# Altium schematic symbol library MOTHERBOARD.SchLib: 670 symbols (part 2 of 2)
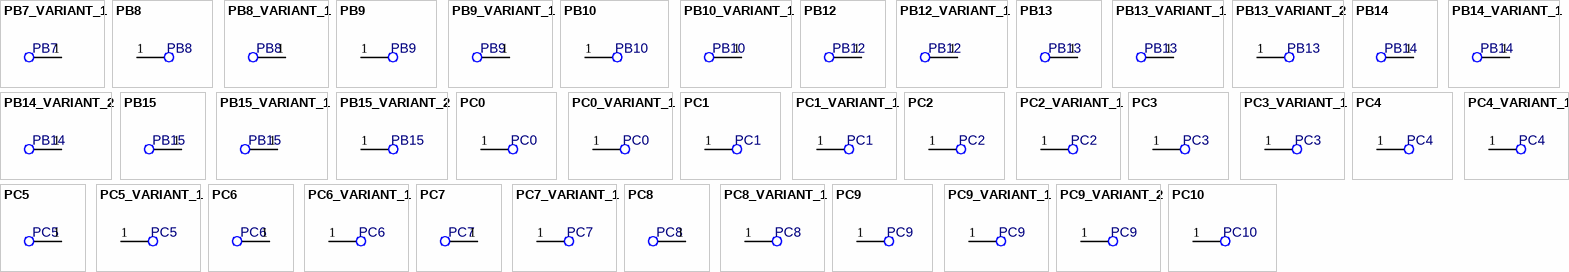
[diagram p17: symbols PB7_VARIANT_1 to PC10]

## PC3
designator U?
Value: *
pins: 1

## PC3_VARIANT_1
designator U?, comment PC3
PC3_VARIANT_1; Value: *
pins: 1

## PC4
designator U?
Value: *
pins: 1

## PC4_VARIANT_1
designator U?, comment PC4
PC4_VARIANT_1; Value: *
pins: 1

## PC5
designator U?
Value: *
pins: 1

## PC5_VARIANT_1
designator U?, comment PC5
PC5_VARIANT_1; Value: *
pins: 1

## PC6
designator U?
Value: *
pins: 1

## PC6_VARIANT_1
designator U?, comment PC6
PC6_VARIANT_1; Value: *
pins: 1

## PC7
designator U?
Value: *
pins: 1

## PC7_VARIANT_1
designator U?, comment PC7
PC7_VARIANT_1; Value: *
pins: 1

## PC8
designator U?
Value: *
pins: 1

## PC8_VARIANT_1
designator U?, comment PC8
PC8_VARIANT_1; Value: *
pins: 1

## PC9
designator U?
Value: *
pins: 1

## PC9_VARIANT_1
designator U?, comment PC9
PC9_VARIANT_1; Value: *
pins: 1

## PC9_VARIANT_2
designator U?, comment PC9
PC9_VARIANT_2; Value: *
pins: 1

## PC10
designator U?
Value: *
pins: 1

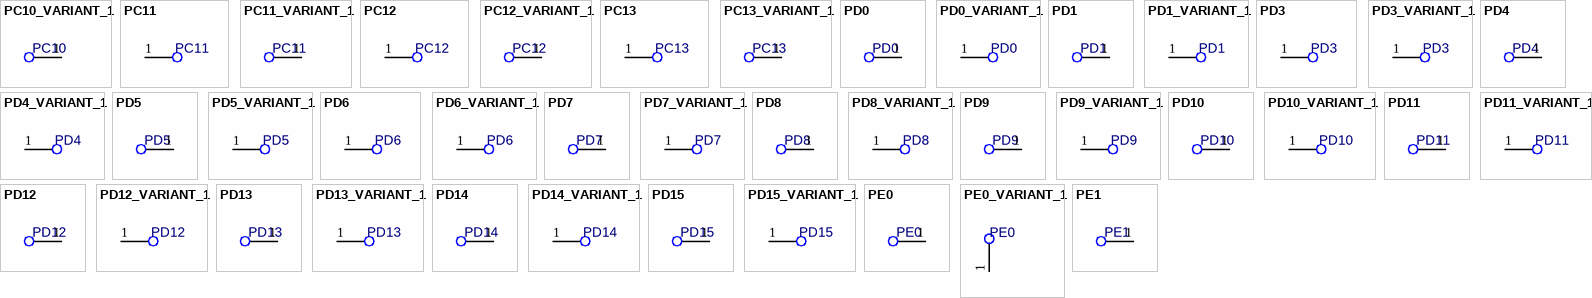
[diagram p13: symbols PC10_VARIANT_1 to PE1]

## PC10_VARIANT_1
designator U?, comment PC10
PC10_VARIANT_1; Value: *
pins: 1

## PC11
designator U?
Value: *
pins: 1

## PC11_VARIANT_1
designator U?, comment PC11
PC11_VARIANT_1; Value: *
pins: 1

## PC12
designator U?
Value: *
pins: 1

## PC12_VARIANT_1
designator U?, comment PC12
PC12_VARIANT_1; Value: *
pins: 1

## PC13
designator U?
Value: *
pins: 1

## PC13_VARIANT_1
designator U?, comment PC13
PC13_VARIANT_1; Value: *
pins: 1

## PD0
designator U?
Value: *
pins: 1

## PD0_VARIANT_1
designator U?, comment PD0
PD0_VARIANT_1; Value: *
pins: 1

## PD1
designator U?
Value: *
pins: 1

## PD1_VARIANT_1
designator U?, comment PD1
PD1_VARIANT_1; Value: *
pins: 1

## PD3
designator U?
Value: *
pins: 1

## PD3_VARIANT_1
designator U?, comment PD3
PD3_VARIANT_1; Value: *
pins: 1

## PD4
designator U?
Value: *
pins: 1

## PD4_VARIANT_1
designator U?, comment PD4
PD4_VARIANT_1; Value: *
pins: 1

## PD5
designator U?
Value: *
pins: 1

## PD5_VARIANT_1
designator U?, comment PD5
PD5_VARIANT_1; Value: *
pins: 1

## PD6
designator U?
Value: *
pins: 1

## PD6_VARIANT_1
designator U?, comment PD6
PD6_VARIANT_1; Value: *
pins: 1

## PD7
designator U?
Value: *
pins: 1

## PD7_VARIANT_1
designator U?, comment PD7
PD7_VARIANT_1; Value: *
pins: 1

## PD8
designator U?
Value: *
pins: 1

## PD8_VARIANT_1
designator U?, comment PD8
PD8_VARIANT_1; Value: *
pins: 1

## PD9
designator U?
Value: *
pins: 1

## PD9_VARIANT_1
designator U?, comment PD9
PD9_VARIANT_1; Value: *
pins: 1

## PD10
designator U?
Value: *
pins: 1

## PD10_VARIANT_1
designator U?, comment PD10
PD10_VARIANT_1; Value: *
pins: 1

## PD11
designator U?
Value: *
pins: 1

## PD11_VARIANT_1
designator U?, comment PD11
PD11_VARIANT_1; Value: *
pins: 1

## PD12
designator U?
Value: *
pins: 1

## PD12_VARIANT_1
designator U?, comment PD12
PD12_VARIANT_1; Value: *
pins: 1

## PD13
designator U?
Value: *
pins: 1

## PD13_VARIANT_1
designator U?, comment PD13
PD13_VARIANT_1; Value: *
pins: 1

## PD14
designator U?
Value: *
pins: 1

## PD14_VARIANT_1
designator U?, comment PD14
PD14_VARIANT_1; Value: *
pins: 1

## PD15
designator U?
Value: *
pins: 1

## PD15_VARIANT_1
designator U?, comment PD15
PD15_VARIANT_1; Value: *
pins: 1

## PE0
designator U?
Value: *
pins: 1

## PE0_VARIANT_1
designator U?, comment PE0
PE0_VARIANT_1; Value: *
pins: 1

## PE1
designator U?
Value: *
pins: 1

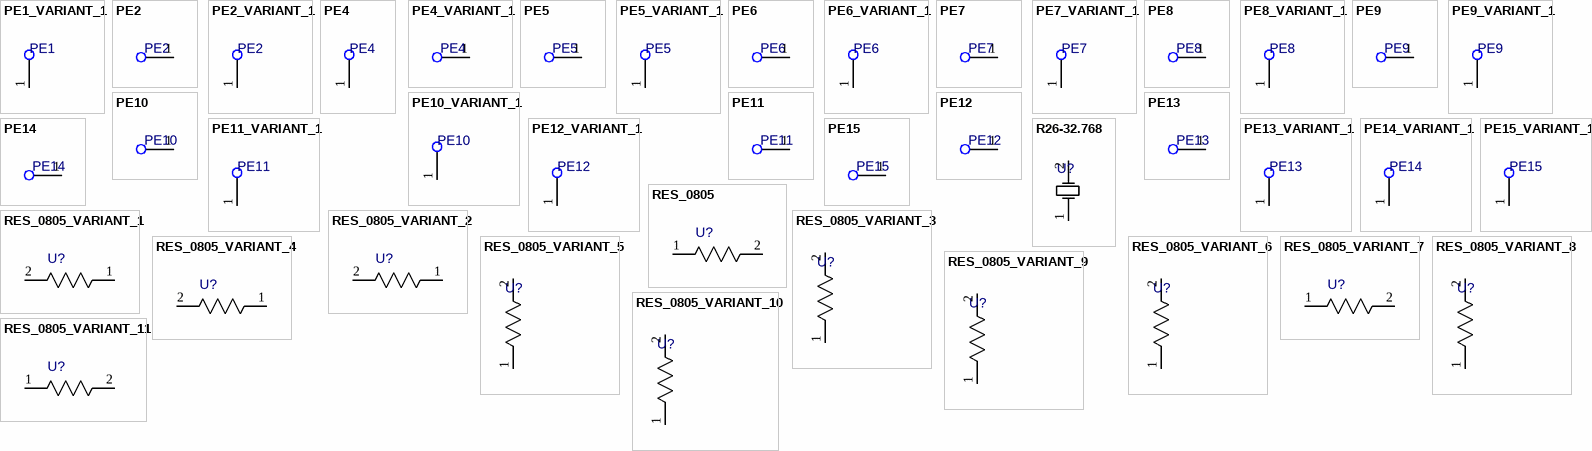
[diagram p14: symbols PE1_VARIANT_1 to RES_0805_VARIANT_11]

## PE1_VARIANT_1
designator U?, comment PE1
PE1_VARIANT_1; Value: *
pins: 1

## PE2
designator U?
Value: *
pins: 1

## PE2_VARIANT_1
designator U?, comment PE2
PE2_VARIANT_1; Value: *
pins: 1

## PE4
designator U?
Value: *
pins: 1

## PE4_VARIANT_1
designator U?, comment PE4
PE4_VARIANT_1; Value: *
pins: 1

## PE5
designator U?
Value: *
pins: 1

## PE5_VARIANT_1
designator U?, comment PE5
PE5_VARIANT_1; Value: *
pins: 1

## PE6
designator U?
Value: *
pins: 1

## PE6_VARIANT_1
designator U?, comment PE6
PE6_VARIANT_1; Value: *
pins: 1

## PE7
designator U?
Value: *
pins: 1

## PE7_VARIANT_1
designator U?, comment PE7
PE7_VARIANT_1; Value: *
pins: 1

## PE8
designator U?
Value: *
pins: 1

## PE8_VARIANT_1
designator U?, comment PE8
PE8_VARIANT_1; Value: *
pins: 1

## PE9
designator U?
Value: *
pins: 1

## PE9_VARIANT_1
designator U?, comment PE9
PE9_VARIANT_1; Value: *
pins: 1

## PE10
designator U?
Value: *
pins: 1

## PE10_VARIANT_1
designator U?, comment PE10
PE10_VARIANT_1; Value: *
pins: 1

## PE11
designator U?
Value: *
pins: 1

## PE11_VARIANT_1
designator U?, comment PE11
PE11_VARIANT_1; Value: *
pins: 1

## PE12
designator U?
Value: *
pins: 1

## PE12_VARIANT_1
designator U?, comment PE12
PE12_VARIANT_1; Value: *
pins: 1

## PE13
designator U?
Value: *
pins: 1

## PE13_VARIANT_1
designator U?, comment PE13
PE13_VARIANT_1; Value: *
pins: 1

## PE14
designator U?
Value: *
pins: 1

## PE14_VARIANT_1
designator U?, comment PE14
PE14_VARIANT_1; Value: *
pins: 1

## PE15
designator U?
Value: *
pins: 1

## PE15_VARIANT_1
designator U?, comment PE15
PE15_VARIANT_1; Value: *
pins: 1

## R26-32.768
designator U?  (value not drawn)
Value: *
footprint BCY-2/D2.1
pins: 1 OSC1, 2 OSC2

## RES_0805
designator U?  (value not drawn)
Value: *
footprint RES_0805
pins: 1, 2

## RES_0805_VARIANT_1
designator U?, comment RES_0805  (value not drawn)
RES_0805_VARIANT_1; Value: *
footprint RES_0805
pins: 1, 2

## RES_0805_VARIANT_2
designator U?, comment RES_0805  (value not drawn)
RES_0805_VARIANT_2; Value: *
footprint RES_0805
pins: 1, 2

## RES_0805_VARIANT_3
designator U?, comment RES_0805  (value not drawn)
RES_0805_VARIANT_3; Value: *
footprint RES_0805
pins: 1, 2

## RES_0805_VARIANT_4
designator U?, comment RES_0805  (value not drawn)
RES_0805_VARIANT_4; Value: *
footprint RES_0805
pins: 1, 2

## RES_0805_VARIANT_5
designator U?, comment RES_0805  (value not drawn)
RES_0805_VARIANT_5; Value: *
footprint RES_0805
pins: 1, 2

## RES_0805_VARIANT_6
designator U?, comment RES_0805  (value not drawn)
RES_0805_VARIANT_6; Value: *
footprint RES_0805
pins: 1, 2

## RES_0805_VARIANT_7
designator U?, comment RES_0805  (value not drawn)
RES_0805_VARIANT_7; Value: *
footprint RES_0805
pins: 1, 2

## RES_0805_VARIANT_8
designator U?, comment RES_0805  (value not drawn)
RES_0805_VARIANT_8; Value: *
footprint RES_0805
pins: 1, 2

## RES_0805_VARIANT_9
designator U?, comment RES_0805  (value not drawn)
RES_0805_VARIANT_9; Value: *
footprint RES_0805
pins: 1, 2

## RES_0805_VARIANT_10
designator U?, comment RES_0805  (value not drawn)
RES_0805_VARIANT_10; Value: *
footprint RES_0805
pins: 1, 2

## RES_0805_VARIANT_11
designator U?, comment RES_0805  (value not drawn)
RES_0805_VARIANT_11; Value: *
footprint RES_0805
pins: 1, 2

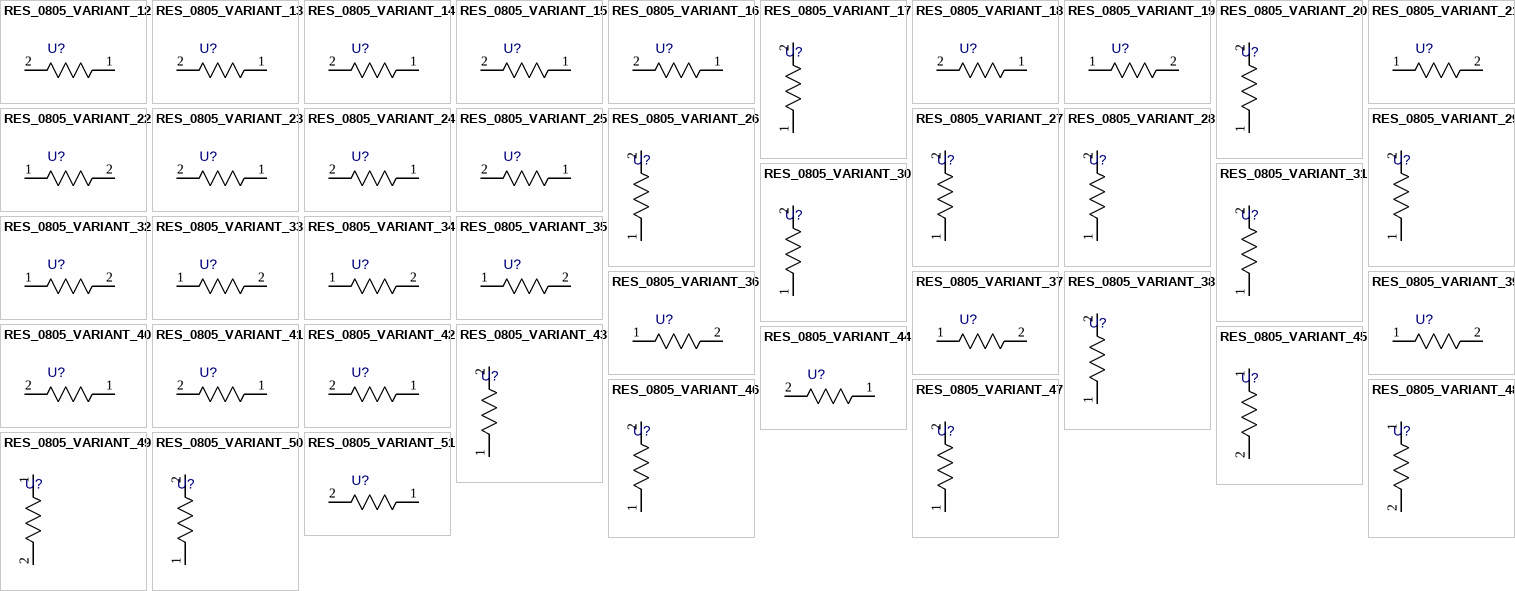
[diagram p15: symbols RES_0805_VARIANT_12 to RES_0805_VARIANT_51]

## RES_0805_VARIANT_12
designator U?, comment RES_0805  (value not drawn)
RES_0805_VARIANT_12; Value: *
footprint RES_0805
pins: 1, 2

## RES_0805_VARIANT_13
designator U?, comment RES_0805  (value not drawn)
RES_0805_VARIANT_13; Value: *
footprint RES_0805
pins: 1, 2

## RES_0805_VARIANT_14
designator U?, comment RES_0805  (value not drawn)
RES_0805_VARIANT_14; Value: *
footprint RES_0805
pins: 1, 2

## RES_0805_VARIANT_15
designator U?, comment RES_0805  (value not drawn)
RES_0805_VARIANT_15; Value: *
footprint RES_0805
pins: 1, 2

## RES_0805_VARIANT_16
designator U?, comment RES_0805  (value not drawn)
RES_0805_VARIANT_16; Value: *
footprint RES_0805
pins: 1, 2

## RES_0805_VARIANT_17
designator U?, comment RES_0805  (value not drawn)
RES_0805_VARIANT_17; Value: *
footprint RES_0805
pins: 1, 2

## RES_0805_VARIANT_18
designator U?, comment RES_0805  (value not drawn)
RES_0805_VARIANT_18; Value: *
footprint RES_0805
pins: 1, 2

## RES_0805_VARIANT_19
designator U?, comment RES_0805  (value not drawn)
RES_0805_VARIANT_19; Value: *
footprint RES_0805
pins: 1, 2

## RES_0805_VARIANT_20
designator U?, comment RES_0805  (value not drawn)
RES_0805_VARIANT_20; Value: *
footprint RES_0805
pins: 1, 2

## RES_0805_VARIANT_21
designator U?, comment RES_0805  (value not drawn)
RES_0805_VARIANT_21; Value: *
footprint RES_0805
pins: 1, 2

## RES_0805_VARIANT_22
designator U?, comment RES_0805  (value not drawn)
RES_0805_VARIANT_22; Value: *
footprint RES_0805
pins: 1, 2

## RES_0805_VARIANT_23
designator U?, comment RES_0805  (value not drawn)
RES_0805_VARIANT_23; Value: *
footprint RES_0805
pins: 1, 2

## RES_0805_VARIANT_24
designator U?, comment RES_0805  (value not drawn)
RES_0805_VARIANT_24; Value: *
footprint RES_0805
pins: 1, 2

## RES_0805_VARIANT_25
designator U?, comment RES_0805  (value not drawn)
RES_0805_VARIANT_25; Value: *
footprint RES_0805
pins: 1, 2

## RES_0805_VARIANT_26
designator U?, comment RES_0805  (value not drawn)
RES_0805_VARIANT_26; Value: *
footprint RES_0805
pins: 1, 2

## RES_0805_VARIANT_27
designator U?, comment RES_0805  (value not drawn)
RES_0805_VARIANT_27; Value: *
footprint RES_0805
pins: 1, 2

## RES_0805_VARIANT_28
designator U?, comment RES_0805  (value not drawn)
RES_0805_VARIANT_28; Value: *
footprint RES_0805
pins: 1, 2

## RES_0805_VARIANT_29
designator U?, comment RES_0805  (value not drawn)
RES_0805_VARIANT_29; Value: *
footprint RES_0805
pins: 1, 2

## RES_0805_VARIANT_30
designator U?, comment RES_0805  (value not drawn)
RES_0805_VARIANT_30; Value: *
footprint RES_0805
pins: 1, 2

## RES_0805_VARIANT_31
designator U?, comment RES_0805  (value not drawn)
RES_0805_VARIANT_31; Value: *
footprint RES_0805
pins: 1, 2

## RES_0805_VARIANT_32
designator U?, comment RES_0805  (value not drawn)
RES_0805_VARIANT_32; Value: *
footprint RES_0805
pins: 1, 2

## RES_0805_VARIANT_33
designator U?, comment RES_0805  (value not drawn)
RES_0805_VARIANT_33; Value: *
footprint RES_0805
pins: 1, 2

## RES_0805_VARIANT_34
designator U?, comment RES_0805  (value not drawn)
RES_0805_VARIANT_34; Value: *
footprint RES_0805
pins: 1, 2

## RES_0805_VARIANT_35
designator U?, comment RES_0805  (value not drawn)
RES_0805_VARIANT_35; Value: *
footprint RES_0805
pins: 1, 2

## RES_0805_VARIANT_36
designator U?, comment RES_0805  (value not drawn)
RES_0805_VARIANT_36; Value: *
footprint RES_0805
pins: 1, 2

## RES_0805_VARIANT_37
designator U?, comment RES_0805  (value not drawn)
RES_0805_VARIANT_37; Value: *
footprint RES_0805
pins: 1, 2

## RES_0805_VARIANT_38
designator U?, comment RES_0805  (value not drawn)
RES_0805_VARIANT_38; Value: *
footprint RES_0805
pins: 1, 2

## RES_0805_VARIANT_39
designator U?, comment RES_0805  (value not drawn)
RES_0805_VARIANT_39; Value: *
footprint RES_0805
pins: 1, 2

## RES_0805_VARIANT_40
designator U?, comment RES_0805  (value not drawn)
RES_0805_VARIANT_40; Value: *
footprint RES_0805
pins: 1, 2

## RES_0805_VARIANT_41
designator U?, comment RES_0805  (value not drawn)
RES_0805_VARIANT_41; Value: *
footprint RES_0805
pins: 1, 2

## RES_0805_VARIANT_42
designator U?, comment RES_0805  (value not drawn)
RES_0805_VARIANT_42; Value: *
footprint RES_0805
pins: 1, 2

## RES_0805_VARIANT_43
designator U?, comment RES_0805  (value not drawn)
RES_0805_VARIANT_43; Value: *
footprint RES_0805
pins: 1, 2

## RES_0805_VARIANT_44
designator U?, comment RES_0805  (value not drawn)
RES_0805_VARIANT_44; Value: *
footprint RES_0805
pins: 1, 2

## RES_0805_VARIANT_45
designator U?, comment RES_0805  (value not drawn)
RES_0805_VARIANT_45; Value: *
footprint RES_0805
pins: 1, 2

## RES_0805_VARIANT_46
designator U?, comment RES_0805  (value not drawn)
RES_0805_VARIANT_46; Value: *
footprint RES_0805
pins: 1, 2

## RES_0805_VARIANT_47
designator U?, comment RES_0805  (value not drawn)
RES_0805_VARIANT_47; Value: *
footprint RES_0805
pins: 1, 2

## RES_0805_VARIANT_48
designator U?, comment RES_0805  (value not drawn)
RES_0805_VARIANT_48; Value: *
footprint RES_0805
pins: 1, 2

## RES_0805_VARIANT_49
designator U?, comment RES_0805  (value not drawn)
RES_0805_VARIANT_49; Value: *
footprint RES_0805
pins: 1, 2

## RES_0805_VARIANT_50
designator U?, comment RES_0805  (value not drawn)
RES_0805_VARIANT_50; Value: *
footprint RES_0805
pins: 1, 2

## RES_0805_VARIANT_51
designator U?, comment RES_0805  (value not drawn)
RES_0805_VARIANT_51; Value: *
footprint RES_0805
pins: 1, 2

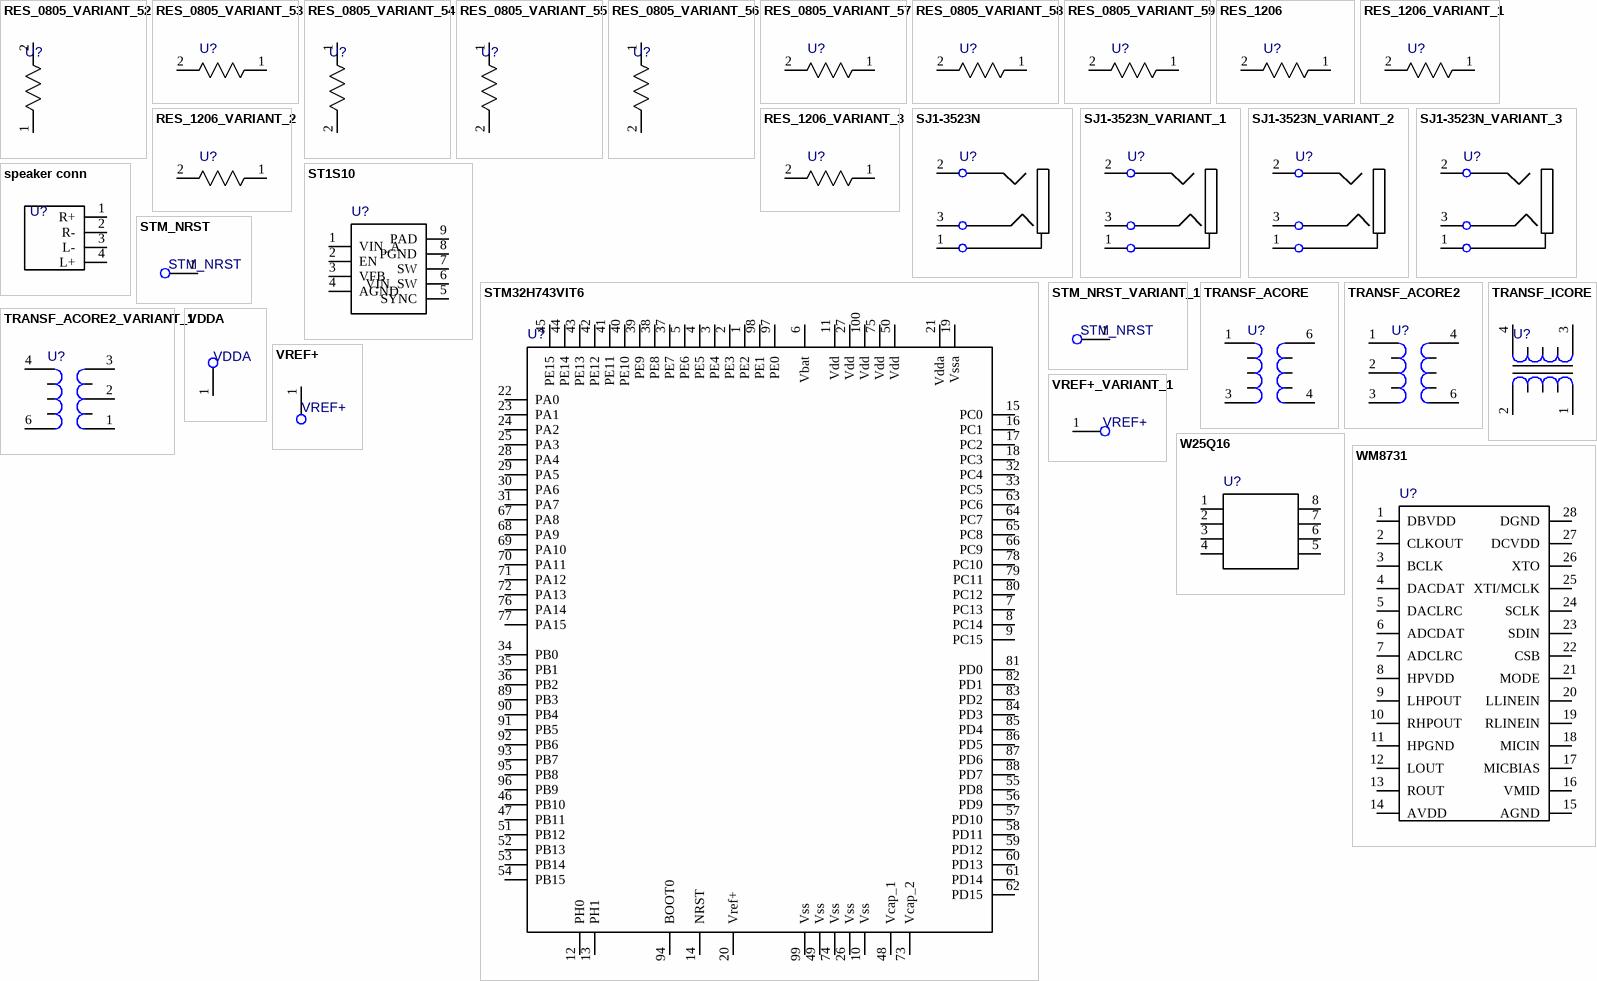
[diagram p16: symbols RES_0805_VARIANT_52 to WM8731]

## RES_0805_VARIANT_52
designator U?, comment RES_0805  (value not drawn)
RES_0805_VARIANT_52; Value: *
footprint RES_0805
pins: 1, 2

## RES_0805_VARIANT_53
designator U?, comment RES_0805  (value not drawn)
RES_0805_VARIANT_53; Value: *
footprint RES_0805
pins: 1, 2

## RES_0805_VARIANT_54
designator U?, comment RES_0805  (value not drawn)
RES_0805_VARIANT_54; Value: *
footprint RES_0805
pins: 1, 2

## RES_0805_VARIANT_55
designator U?, comment RES_0805  (value not drawn)
RES_0805_VARIANT_55; Value: *
footprint RES_0805
pins: 1, 2

## RES_0805_VARIANT_56
designator U?, comment RES_0805  (value not drawn)
RES_0805_VARIANT_56; Value: *
footprint RES_0805
pins: 1, 2

## RES_0805_VARIANT_57
designator U?, comment RES_0805  (value not drawn)
RES_0805_VARIANT_57; Value: *
footprint RES_0805
pins: 1, 2

## RES_0805_VARIANT_58
designator U?, comment RES_0805  (value not drawn)
RES_0805_VARIANT_58; Value: *
footprint RES_0805
pins: 1, 2

## RES_0805_VARIANT_59
designator U?, comment RES_0805  (value not drawn)
RES_0805_VARIANT_59; Value: *
footprint RES_0805
pins: 1, 2

## RES_1206
designator U?  (value not drawn)
Value: *
footprint RES_1206
pins: 1, 2

## RES_1206_VARIANT_1
designator U?, comment RES_1206  (value not drawn)
RES_1206_VARIANT_1; Value: *
footprint RES_1206
pins: 1, 2

## RES_1206_VARIANT_2
designator U?, comment RES_1206  (value not drawn)
RES_1206_VARIANT_2; Value: *
footprint RES_1206
pins: 1, 2

## RES_1206_VARIANT_3
designator U?, comment RES_1206  (value not drawn)
RES_1206_VARIANT_3; Value: *
footprint RES_1206
pins: 1, 2

## SJ1-3523N
designator U?  (value not drawn)
Value: *
footprint SJ1-3525NG
pins: 1 sleeve, 2 tip, 3 ring

## SJ1-3523N_VARIANT_1
designator U?, comment SJ1-3523N  (value not drawn)
SJ1-3523N_VARIANT_1; Value: *
footprint SJ1-3523N
pins: 1 sleeve, 2 tip, 3 ring

## SJ1-3523N_VARIANT_2
designator U?, comment SJ1-3523N  (value not drawn)
SJ1-3523N_VARIANT_2; Value: *
footprint SJ1-3523N
pins: 1 sleeve, 2 tip, 3 ring

## SJ1-3523N_VARIANT_3
designator U?, comment SJ1-3523N  (value not drawn)
SJ1-3523N_VARIANT_3; Value: *
footprint SJ1-3523N
pins: 1 sleeve, 2 tip, 3 ring

## speaker conn
designator U?, comment 4 pins conn  (value not drawn)
Value: *
footprint speaker conn
pins: 1 R+, 2 R-, 3 L-, 4 L+

## ST1S10
designator U?  (value not drawn)
Value: *
footprint SOIC-8V2EP/150mil
pins: 1 VIN_A, 2 EN, 3 VFB, 4 AGND, 5 SYNC, 6 VIN_SW, 7 SW, 8 PGND, 9 PAD

## STM32H743VIT6
designator U?  (value not drawn)
Value: *
footprint QFP-100/16x16x0.5
pins: 1 PE2, 2 PE3, 3 PE4, 4 PE5, 5 PE6, 6 Vbat, 7 PC13, 8 PC14, 9 PC15, 10 Vss, 11 Vdd, 12 PH0, 13 PH1, 14 NRST, 15 PC0, 16 PC1, 17 PC2, 18 PC3, 19 Vssa, 20 Vref+, 21 Vdda, 22 PA0, 23 PA1, 24 PA2, 25 PA3, 26 Vss, 27 Vdd, 28 PA4, 29 PA5, 30 PA6, 31 PA7, 32 PC4, 33 PC5, 34 PB0, 35 PB1, 36 PB2, 37 PE7, 38 PE8, 39 PE9, 40 PE10, 41 PE11, 42 PE12, 43 PE13, 44 PE14, 45 PE15, 46 PB10, 47 PB11, 48 Vcap_1, 49 Vss, 50 Vdd, 51 PB12, 52 PB13, 53 PB14, 54 PB15, 55 PD8, 56 PD9, 57 PD10, 58 PD11, 59 PD12, 60 PD13, 61 PD14, 62 PD15, 63 PC6, 64 PC7, 65 PC8, 66 PC9, 67 PA8, 68 PA9, 69 PA10, 70 PA11, 71 PA12, 72 PA13, 73 Vcap_2, 74 Vss, 75 Vdd, 76 PA14, 77 PA15, 78 PC10, 79 PC11, 80 PC12, 81 PD0, 82 PD1, 83 PD2, 84 PD3, 85 PD4, 86 PD5, 87 PD6, 88 PD7, 89 PB3, 90 PB4, 91 PB5, 92 PB6, 93 PB7, 94 BOOT0, 95 PB8, 96 PB9, 97 PE0, 98 PE1, 99 Vss, 100 Vdd

## STM_NRST
designator U?
Value: *
pins: 1

## STM_NRST_VARIANT_1
designator U?, comment STM_NRST
STM_NRST_VARIANT_1; Value: *
pins: 1

## TRANSF_ACORE
designator U?  (value not drawn)
Value: *
footprint ADT-TRANS-HYBRID
pins: 1 P1, 3 P2, 4 S2, 6 S1

## TRANSF_ACORE2
designator U?  (value not drawn)
Value: *
footprint ADT-TRANS-HYBRID
pins: 1 S3, 2 S2, 3 S1, 4 P2, 6 P1

## TRANSF_ACORE2_VARIANT_1
designator U?, comment TRANSF_ACORE2  (value not drawn)
TRANSF_ACORE2_VARIANT_1; Value: *
footprint ADT-TRANS-HYBRID
pins: 1 S3, 2 S2, 3 S1, 4 P1, 6 P2

## TRANSF_ICORE
designator U?  (value not drawn)
Value: *
footprint ACP3225
pins: 1 S1, 2 S2, 3 P1, 4 P2

## VDDA
designator U?
Value: *
pins: 1

## VREF+
designator U?
Value: *
pins: 1

## VREF+_VARIANT_1
designator U?, comment VREF+
VREF+_VARIANT_1; Value: *
pins: 1

## W25Q16
designator U?  (value not drawn)
Value: *
footprint SOIC-8/300mil
pins: 1 CS, 2 SO, 3 WP, 4 GND, 5 SI, 6 CLK, 7 HOLD, 8 VCC

## WM8731
designator U?  (value not drawn)
Value: *
footprint SSOP-28
pins: 1 DBVDD, 2 CLKOUT, 3 BCLK, 4 DACDAT, 5 DACLRC, 6 ADCDAT, 7 ADCLRC, 8 HPVDD, 9 LHPOUT, 10 RHPOUT, 11 HPGND, 12 LOUT, 13 ROUT, 14 AVDD, 15 AGND, 16 VMID, 17 MICBIAS, 18 MICIN, 19 RLINEIN, 20 LLINEIN, 21 MODE, 22 CSB, 23 SDIN, 24 SCLK, 25 XTI/MCLK, 26 XTO, 27 DCVDD, 28 DGND